# Altium footprint library SRR1208-270ML.PcbLib: 1 footprints
Each footprint in its own frame and in the unit in brackets; x right, y up, seen from the top. Pads: shape width x height; smd on the part's side, far side on the other; paste and mask are expansions set on the pad; w line width, h text height; cw(c..) or ccw(c..) is an arc to the next point about the centre after c.
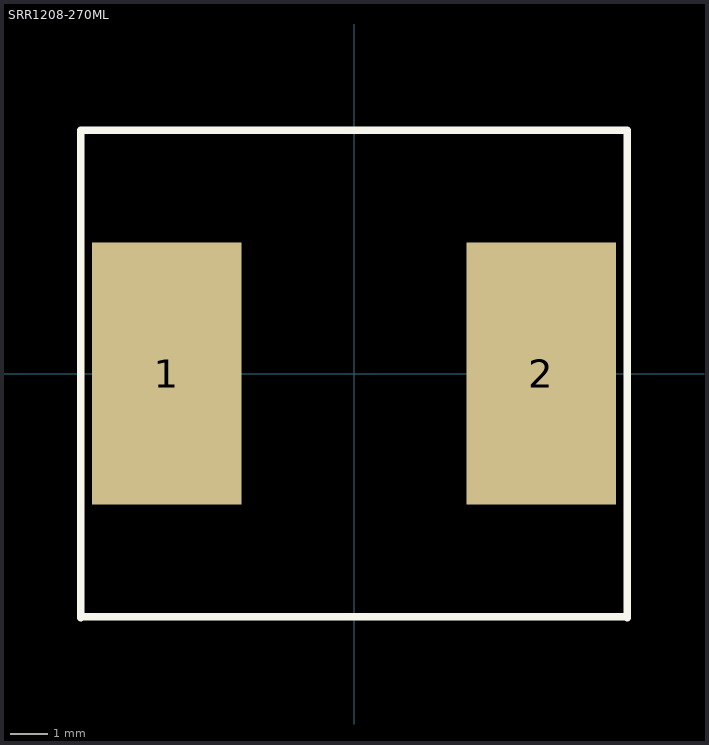
[diagram p0: the footprint, top view; thin cyan lines are the x and y axes]

## SRR1208-270ML [mm] "SRR1208-270ML Indcutor"
height 1.1
pads (2):
  rect 4x7 smd: 1(-5,0) 2(5,0)
Top Overlay:
  lines w0.203: -7.3,-6.525 -7.3,6.5 7.3,6.5 7.3,-6.525 ; -7.3,-6.5 7.3,-6.5
3D body "srr1208.stp": height 8.51, standoff 0.01, extent -6.325,-6.35 6.375,6.35